# EAGLE library part ESC (library auv)
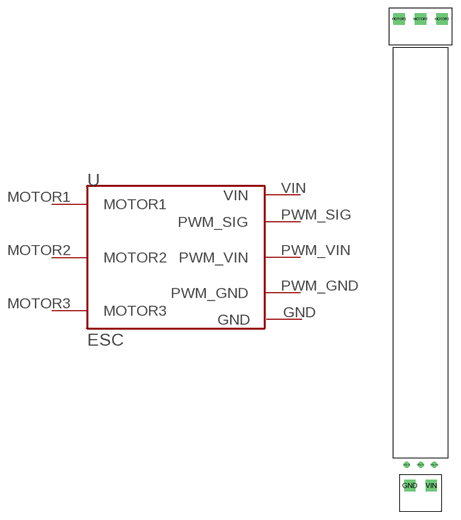
[diagram p62: symbol with the pads of ESC; footprint ESC]

Designator prefix -

## ESC  [ESC]
GND  GND
MOTOR1  MOTOR1
MOTOR2  MOTOR2
MOTOR3  MOTOR3
PWM_GND  PWM_GND
PWM_SIG  PWM_SIG
PWM_VIN  PWM_VIN
VIN  VIN

## Footprint ESC (pad centres in mm)
drill 1.4 square: GND -1.98,-43.18; MOTOR1 -3.96,43.307; MOTOR2 0,43.307; MOTOR3 3.96,43.307; VIN 1.98,-43.18
drill 0.6: PWM_GND 2.54,-39.37; PWM_SIG -2.54,-39.37; PWM_VIN 0,-39.37